# Altium footprint library Jump_header.PcbLib: 54 footprints (part 3 of 4)
Each footprint in its own frame and in the unit in brackets; x right, y up, seen from the top. Pads: shape width x height; smd on the part's side, far side on the other; paste and mask are expansions set on the pad; w line width, h text height; cw(c..) or ccw(c..) is an arc to the next point about the centre after c.
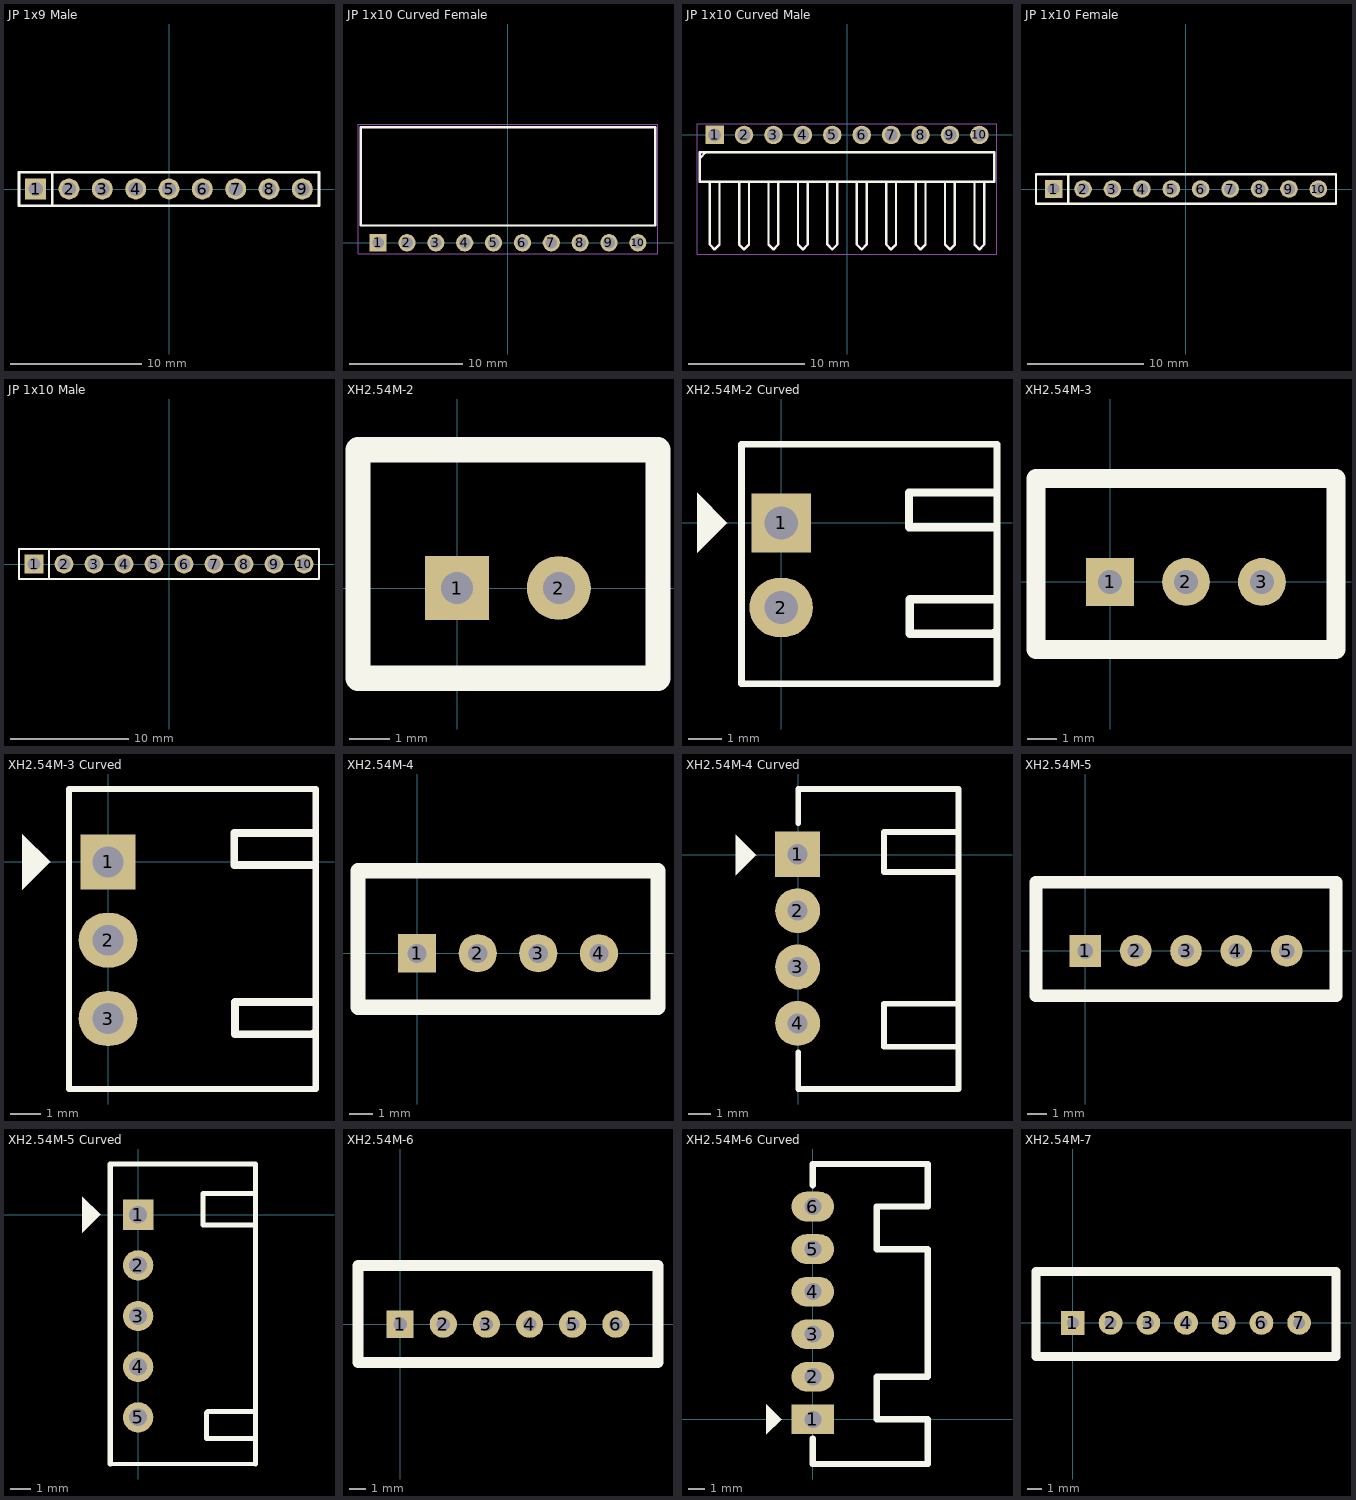
[diagram p2: the footprints below, top view; thin cyan lines are the x and y axes]

## JP 1x9 Male [mm]
pads (9):
  rect 1.6x1.6 hole 1.1: 1(-10.16,0)
  round 1.6 hole 1.1: 2(-7.62,0) 3(-5.08,0) 4(-2.54,0) 5(0,0) 6(2.54,0) 7(5.08,0) 8(7.62,0) 9(10.16,0)
Top Overlay:
  lines w0.2: -8.89,-1.27 -8.89,1.27 ; -11.43,-1.27 11.43,-1.27 11.43,1.27 -11.43,1.27 -11.43,-1.27
3D body "61300911121.stp": height 8.54, standoff -3, extent -11.43,-1.27 11.43,1.27

## JP 1x10 Curved Female [mm]
pads (10):
  rect 1.52x1.52 hole 1.02: 1(-11.43,0)
  round 1.52 hole 1.02: 2(-8.89,0) 3(-6.35,0) 4(-3.81,0) 5(-1.27,0) 6(1.27,0) 7(3.81,0) 8(6.35,0) 9(8.89,0) 10(11.43,0)
Top Overlay:
  lines w0.2: -12.954,1.524 12.954,1.524 12.954,10.173 -12.954,10.173 -12.954,1.524
Mechanical 15:
  lines w0.1: -13.2,-0.96 13.204,-0.96 13.204,10.423 -13.2,10.423 -13.2,-0.96
3D body "613010143121.stp": height 2.51, standoff -3.08, extent -12.95,-0.208 12.95,10.092

## JP 1x10 Curved Male [mm]
pads (10):
  rect 1.6x1.6 hole 1.1: 1(-11.43,0)
  round 1.6 hole 1.1: 2(-8.89,0) 3(-6.35,0) 4(-3.81,0) 5(-1.27,0) 6(1.27,0) 7(3.81,0) 8(6.35,0) 9(8.89,0) 10(11.43,0)
Top Overlay:
  lines w0.2: -12.658,-1.966 -12.234,-1.542 ; -11.853,-4.065 -11.853,-9.459 -11.43,-9.882 -11.007,-9.459 -11.007,-4.04 ; -9.313,-4.065 -9.313,-9.459 -8.89,-9.882 -8.467,-9.459 -8.467,-4.065 ; -6.773,-4.065 -6.773,-9.459 -6.35,-9.882 -5.927,-9.459 -5.927,-4.04 ; -4.233,-4.065 -4.233,-9.459 -3.81,-9.882 -3.387,-9.459 -3.387,-4.065 ; -1.693,-4.065 -1.693,-9.459 -1.27,-9.882 -0.847,-9.459 -0.847,-4.04 ; 0.847,-4.065 0.847,-9.459 1.27,-9.882 1.693,-9.459 1.693,-4.065 ; 3.387,-4.065 3.387,-9.459 3.81,-9.882 4.233,-9.459 4.233,-4.04 ; 5.927,-4.065 5.927,-9.459 6.35,-9.882 6.773,-9.459 6.773,-4.065 ; 8.467,-4.065 8.467,-9.459 8.89,-9.882 9.313,-9.459 9.313,-4.04 ; 11.007,-4.065 11.007,-9.459 11.43,-9.882 11.853,-9.459 11.853,-4.065 ; -12.7,-4.04 12.7,-4.04 12.7,-1.5 -12.7,-1.5 -12.7,-4.04
Mechanical 15:
  lines w0.1: -12.95,-10.29 12.95,-10.29 12.95,0.96 -12.95,0.96 -12.95,-10.29
3D body "61301011021.stp": height 2.55, standoff -2.99, extent -12.7,-10.064 12.7,0.296

## JP 1x10 Female [mm]
pads (10):
  rect 1.52x1.52 hole 1.02: 1(-11.43,0)
  round 1.52 hole 1.02: 2(-8.89,0) 3(-6.35,0) 4(-3.81,0) 5(-1.27,0) 6(1.27,0) 7(3.81,0) 8(6.35,0) 9(8.89,0) 10(11.43,0)
Top Overlay:
  lines w0.2: -10.16,-1.27 -10.16,1.27 ; -12.95,-1.27 12.95,-1.27 12.95,1.27 -10.795,1.27 -12.95,1.27 -12.95,-1.27
3D body "61301011821.stp": height 8.51, standoff -3.09, extent -12.95,-1.25 12.95,1.25

## JP 1x10 Male [mm]
pads (10):
  rect 1.6x1.6 hole 1.1: 1(-11.43,0)
  round 1.6 hole 1.1: 2(-8.89,0) 3(-6.35,0) 4(-3.81,0) 5(-1.27,0) 6(1.27,0) 7(3.81,0) 8(6.35,0) 9(8.89,0) 10(11.43,0)
Top Overlay:
  lines w0.2: -10.16,-1.27 -10.16,1.27 ; -12.7,-1.27 -12.7,1.27 -10.795,1.27 12.7,1.27 12.7,-1.27 -12.7,-1.27
3D body "61301011121.stp": height 8.54, standoff -3, extent -12.7,-1.27 12.7,1.27

## XH2.54M-2 [mm]
pads (2):
  rect 1.6x1.6 hole 0.8: 1(0,0)
  round 1.6 hole 0.8: 2(2.54,0)
Top Overlay:
  lines w0.635: -2.48,-2.26 -2.48,3.46 5.02,3.46 5.02,-2.26 -2.48,-2.26
3D body "XH2.54M-2.STEP": height 6.91, standoff -1.82, extent -2.48,-2.26 5.02,3.48

## XH2.54M-2 Curved [mil]
pads (2):
  rect 70x70 hole 39.37: 1(0,0)
  oval 75x70 hole 39.37: 2(0,-100)
Top Overlay:
  region: -99.5,35.5 -99.5,-35.5 -64.5,-0.5 -63.5,-0.5
  lines w7.87: -47,-190 -47,93 255,93 255,-190 -47,-190
  lines w10: 151,34 cw(c152,34) 152,35 ; 251,36 151,36 151,-5 253,-5 ; 253,-131 cw(c253,-130) 252,-130 cw(c251,-130) 251,-131 152,-131 152,-90 254,-90
3D body "User Library-XH2_54-2P-WT.step": height 232.28, standoff -133.86, extent -18.12,-197.63 277.79,97.64

## XH2.54M-3 [mm]
pads (3):
  rect 1.6x1.6 hole 0.8: 1(0,0)
  round 1.6 hole 0.8: 2(2.54,0) 3(5.08,0)
Top Overlay:
  lines w0.635: -2.48,-2.26 -2.48,3.46 7.56,3.46 7.56,-2.26 -2.48,-2.26
3D body "XH2.54M-3.STEP": height 6.91, standoff -1.82, extent -2.48,-2.26 7.56,3.48

## XH2.54M-3 Curved [mil]
pads (3):
  rect 70x70 hole 39.37: 1(0,0)
  oval 75x70 hole 39.37: 2(0,-100) 3(0,-200)
Top Overlay:
  region: -109.5,35.5 -109.5,-35.5 -74.5,-0.5 -73.5,-0.5
  lines w7.87: -50,-290 265,-290 265,93 -50,93 -50,-290
  lines w10: 161,35 cw(c162,35) 162,36 ; 261,37 161,37 161,-4 263,-4 ; 263,-220 cw(c263,-219) 262,-219 cw(c261,-219) 261,-220 162,-220 162,-179 264,-179
3D body "User Library-XH2_54-3P-L.STEP": height 232.2, standoff -37.48, extent -21.8,-296.85 265.6,96.85

## XH2.54M-4 [mm]
pads (4):
  rect 1.6x1.6 hole 0.8: 1(0,0)
  round 1.6 hole 0.8: 2(2.54,0) 3(5.08,0) 4(7.62,0)
Top Overlay:
  lines w0.635: -2.48,-2.26 10.1,-2.26 10.1,3.46 -2.48,3.46 -2.48,-2.26
3D body "XH2.54M-4.STEP": height 6.91, standoff -1.82, extent -2.48,-2.26 10.1,3.48

## XH2.54M-4 Curved [mil]
pads (4):
  rect 78.74x78.74 hole 35: 1(-1,1)
  round 78.74 hole 35: 2(-1,-97.42) 3(-1,-195.85) 4(-1,-294.28)
Top Overlay:
  region: -109.5,35.5 -109.5,-35.5 -74.5,-0.5 -73.5,-0.5
  lines w10: 0,-345 0,-409 280,-409 280,115 0,115 0,55 ; 275,40 150,40 150,-30 280,-30 ; 280,-335 150,-335 150,-260 280,-260
3D body "Header X2.54 4P.stp": height 290.5, standoff 0.5, extent 5,-412.5 277.84,122.5

## XH2.54M-5 [mm]
pads (5):
  rect 1.6x1.6 hole 0.8: 1(0,0)
  round 1.6 hole 0.8: 2(2.54,0) 3(5.08,0) 4(7.62,0) 5(10.16,0)
Top Overlay:
  lines w0.635: -2.48,-2.26 -2.48,3.46 12.64,3.46 12.64,-2.26 -2.48,-2.26
3D body "XH2.54M-5.STEP": height 6.91, standoff -1.82, extent -2.48,-2.26 12.64,3.48

## XH2.54M-5 Curved [mil]
pads (5):
  rect 60x60 hole 35: 1(0,0)
  round 60 hole 35: 2(0,-100) 3(0,-200) 4(0,-300) 5(0,-400)
Top Overlay:
  region: -110,35.5 -110,-35.5 -75,-0.5 -74,-0.5
  lines w7.87: -55,-492 232,-492
  lines w10: -55,-492 -55,100 232,100 232,-492 ; 231,-388 138,-388 135,-391 135,-442 232,-442 ; 231,-20 128,-20 128,42 232,42
3D body "User Library-XH2_54-5P.step": height 226.1, standoff -59.11, extent -15,-490.28 289.15,100.28

## XH2.54M-6 [mm]
pads (6):
  rect 1.6x1.6 hole 0.8: 1(0,0)
  round 1.6 hole 0.8: 2(2.54,0) 3(5.08,0) 4(7.62,0) 5(10.16,0) 6(12.7,0)
Top Overlay:
  lines w0.635: -2.48,-2.26 15.18,-2.26 15.18,3.46 -2.48,3.46 -2.48,-2.26
3D body "XH2.54M-6.STEP": height 6.91, standoff -1.82, extent -2.48,-2.26 15.18,3.48

## XH2.54M-6 Curved [mil]
pads (6):
  rect 100x70 hole 40: 1(0,0)
  oval 100x70 hole 40: 2(0,100) 3(0,200) 4(0,300) 5(0,400) 6(0,500)
Top Overlay:
  region: -109.5,35.5 -109.5,-35.5 -74.5,-0.5 -73.5,-0.5
  lines w15: 0,-45.04 0,-105.04 270,-105.04 270,0 150,0 150,100 270,100 270,400 150,400 150,500 270,500 270,600 0,600 0,550
3D body "Header X2.54 6P.stp": height 226.88, standoff 0.5, extent -6.95,-110.25 278.05,604.76

## XH2.54M-7 [mm]
pads (7):
  rect 1.6x1.6 hole 0.8: 1(0,0)
  round 1.6 hole 0.8: 2(2.54,0) 3(5.08,0) 4(7.62,0) 5(10.16,0) 6(12.7,0) 7(15.24,0)
Top Overlay:
  lines w0.635: -2.48,-2.26 17.72,-2.26 17.72,3.46 -2.48,3.46 -2.48,-2.26
3D body "XH2.54M-7.STEP": height 6.91, standoff -1.82, extent -2.48,-2.26 17.72,3.48